# EAGLE library part DS3231M (library ORBiT-IC-Maxim)
±5ppm, I2C Real-Time Clock The DS3231M is a low-cost, extremely accurate, I2C real-time clock (RTC). The device incorporates a battery input and maintains accurate timekeeping when main power to the device is interrupted. The integration of the microelectromechanical systems (MEMS) resonator enhances the long-term accuracy of the device and reduces the piece-part count in a manufacturing line. The DS3231M is available in the same footprint as the popular DS3231 RTC. The RTC maintains seconds, minutes, hours, day, date, month, and year information. The date at the end of the month is automatically adjusted for months with fewer than 31 days, including corrections for leap year. The clock operates in either the 24-hour or 12-hour format with an active-low AM/PM indicator. Two programmable time-of-day alarms and a 1Hz output are provided. Address and data are transferred serially through an I2C bidirectional bus. A precision temperature-compensated voltage reference and comparator circuit monitors the status of VCC to detect power failures, to provide a reset output, and to automatically switch to the backup supply when necessary. Additionally, the active-low RST pin is monitored as a pushbutton input for generating a microprocessor reset. See the Block Diagram in the full data sheet for more details. Features: Highly Accurate RTC With Integrated MEMS Resonator Completely Manages All Timekeeping Functions Complete Clock Calendar Functionality Including Seconds, Minutes, Hours, Day, Date, Month, and Year, with Leap-Year Compensation Up to Year 2100 Timekeeping Accuracy ±5ppm (±0.432 Second/Day) from -45°C to +85°C Footprint and Functionally Compatible to DS3231 Two Time-of-Day Alarms 1Hz and 32.768kHz Outputs Reset Output and Pushbutton Input with Debounce Digital Temp Sensor with ±3°C Accuracy +2.3V to +5.5V Supply Voltage Simple Serial Interface Connects to Most Microcontrollers Fast (400kHz) I2C Interface Battery-Backup Input for Continuous Timekeeping Low Power Operation Extends Battery-Backup Run Time Operating Temperature Range: (-40°C to +85°C) 8-Pin or 16-Pin SO Packages Underwriters Laboratories® (UL) Recognized Technical data: DS3231M ±5ppm, I2C Real-Time Clock <https://www.maximintegrated.com/en/products/digital/real-time-clocks/DS3231.html>
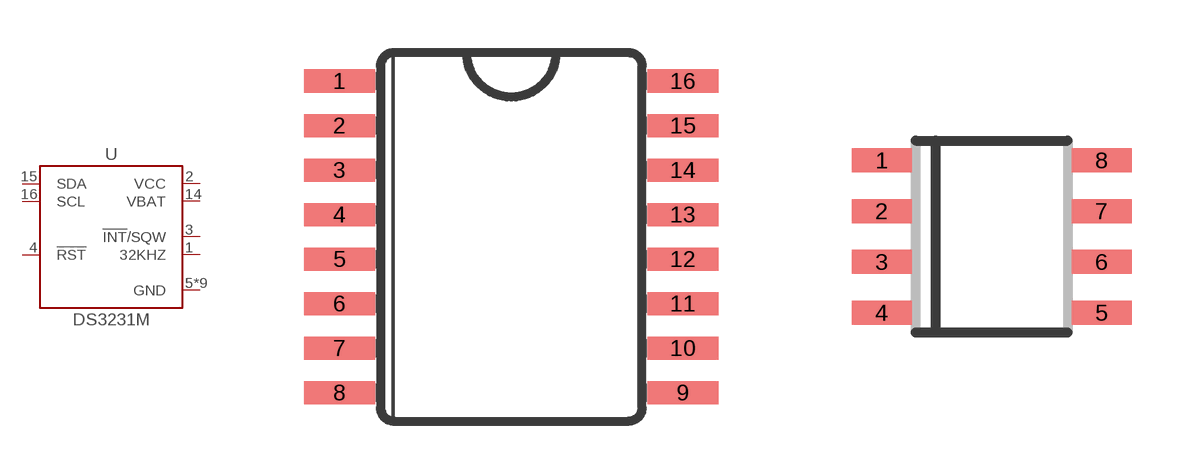
[diagram p1: symbol with the pads of SOIC16-300; footprints SOIC16-300, SOIC8-150]

Designator prefix U

## DS3231M+SOIC16 (MF: Maxim Integrated; MPN: DS3231M+; PN_DIGIKEY: DS3231M+-ND; PN_MOUSER: 700-DS3231M+)  [SOIC16-300]
1  32KHZ  out
2  VCC  pwr
3  !INT!/SQW  out
4  !RST
5  GND  pwr
6  GND  pwr
7  GND  pwr
8  GND  pwr
9  GND  pwr
10  GND  pwr
11  GND  pwr
12  GND  pwr
13  GND  pwr
14  VBAT  pwr
15  SDA
16  SCL

## DS3231MZ+SOIC8 (MF: Maxim Integrated; MPN: DS3231MZ+; PN_DIGIKEY: DS3231MZ+-ND; PN_MOUSER: 700-DS3231MZ+), DS3231MZ/V+SOIC8 (MF: Maxim Integrated; MPN: DS3231MZ/V+; PN_DIGIKEY: DS3231MZ/V+-ND; PN_MOUSER: 700-DS3231MZ/V+)  [SOIC8-150]
1  32KHZ  out
2  VCC  pwr
3  !INT!/SQW  out
4  !RST
5  GND  pwr
6  VBAT  pwr
7  SDA
8  SCL

## Footprint SOIC16-300 (pad centres in mm)
SOIC-16, 300 mils JEDEC MS013
smd 2.032 x 0.66: 1 -4.902,4.445; 2 -4.902,3.175; 3 -4.902,1.905; 4 -4.902,0.635; 5 -4.902,-0.635; 6 -4.902,-1.905; 7 -4.902,-3.175; 8 -4.902,-4.445; 9 4.902,-4.445; 10 4.902,-3.175; 11 4.902,-1.905; 12 4.902,-0.635; 13 4.902,0.635; 14 4.902,1.905; 15 4.902,3.175; 16 4.902,4.445

## Footprint SOIC8-150 (pad centres in mm)
SOIC-8, 150 mils CASE 751BD-01
smd 1.5 x 0.6: 1 -2.75,1.905; 2 -2.75,0.635; 3 -2.75,-0.635; 4 -2.75,-1.905; 5 2.75,-1.905; 6 2.75,-0.635; 7 2.75,0.635; 8 2.75,1.905